# EAGLE library part HT-B33A33 (library colorCube)
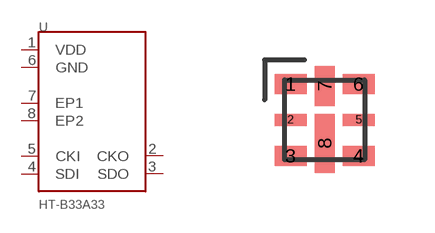
[diagram p0: symbol with the pads of HT-B33A3; footprint HT-B33A3]

Designator prefix U

## HT-B33A33  [HT-B33A3]
1  VDD
2  CKO
3  SDO
4  SDI
5  CKI
6  GND
7  EP1
8  EP2

## Footprint HT-B33A3 (pad centres in mm)
Harvatek HT-B33A33 RGB Chip LED Features 產品特色 RGB Single point of control (RGB單點控制) 8Bit(256 level)color set (8bit,256灰度等級) 5Bit(32 level)brightness adjustment (5Bit,32等級亮度調節) IC input voltage 4.5v~7.5v (IC輸入電壓為4.5v~7.5v) 20mA,Contant current output (20mA恆流輸出) Anti-Reflection resin (抗反射膠體) View angle : >=120゚ (min 50% brightness) (可視角>=120゚(50%光強度時)) High contrast (高對比度)
smd 0.8 x 0.5: 1 -0.85,0.9; 3 -0.85,-0.9; 4 0.85,-0.9; 6 0.85,0.9
smd 0.8 x 0.3: 2 -0.85,0; 5 0.85,0
smd 0.5 x 1: 7 0,0.85
smd 0.5 x 1.48: 8 0,-0.59